# EAGLE library part AE1570H-1344 (library saw-filters-narrowband)
AE1570H-1344 Параметр Ед. изм. Мин. значение Тип. значение Макс. значение Центральная частота МГц 1343.7 1344 1344.3 Минимальное вносимое затухание дБ - 5.1 7 Полоса среза по уровню -3 дБ МГц 1 1.1 - Полоса среза по уровню -40 дБ МГц - 23 - Неравномерность АЧХ дБ - 1 1.5 Групповое время задержки нс - - - Гарантированное затухание дБ - 50 - Температурный диапазон °C -55 22 +85 Материал подложки - - Кварц 36 -
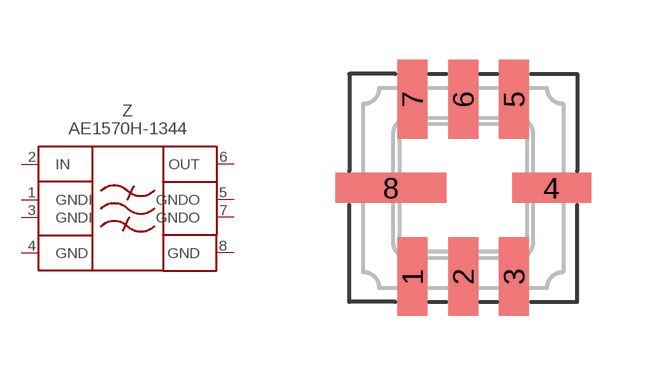
[diagram p38: symbol with the pads of QCC8; footprint QCC8]

Designator prefix Z

## AE1570H-1344  [QCC8]
1  GNDI  pas
2  IN  pas
3  GNDI  pas
4  GND  pwr
5  GNDO  pas
6  OUT  pas
7  GNDO  pas
8  GND  pwr

## Footprint QCC8 (pad centres in mm)
smd 0.75 x 1.97: 1 -1.27,-2.215; 2 0,-2.215; 3 1.27,-2.215; 5 1.27,2.215; 6 0,2.215; 7 -1.27,2.215
smd 1.97 x 0.75: 4 2.215,0
smd 2.78 x 0.75: 8 -1.81,0